# EAGLE library part TC7662BEOA (library MSA_lib)
DC-TO-DC VOLTAGE CONVERTER
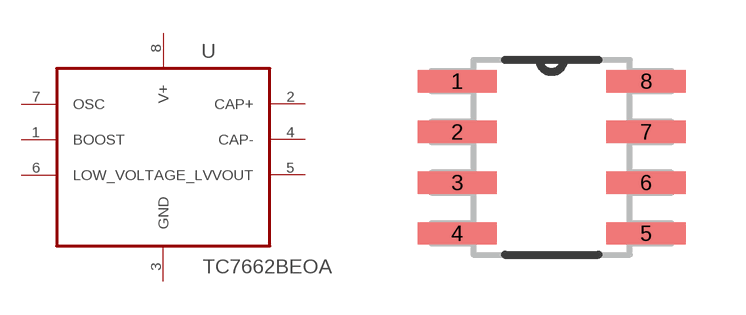
[diagram p3: symbol with the pads of SOIC127P600X175-8N_JDA; footprint SOIC127P600X175-8N_JDA]

Designator prefix -

## TC7662BEOA (MPN: TC7662BEOA; OC_FARNELL: 1331515; OC_NEWARK: 75K1581; PACKAGE: SOIC-8; SUPPLIER: Microchip)  [SOIC127P600X175-8N_JDA]
1  BOOST  in
2  CAP+  pas
3  GND  pas
4  CAP-  pas
5  VOUT  out
6  LOW_VOLTAGE_LV  in
7  OSC  in
8  V+  pwr

## Footprint SOIC127P600X175-8N_JDA (pad centres in mm)
smd 1.981 x 0.559: 1 -2.362,1.905; 2 -2.362,0.635; 3 -2.362,-0.635; 4 -2.362,-1.905; 5 2.362,-1.905; 6 2.362,-0.635; 7 2.362,0.635; 8 2.362,1.905